# EAGLE library part FTDI (library we-board)
FTDI 6pol connector
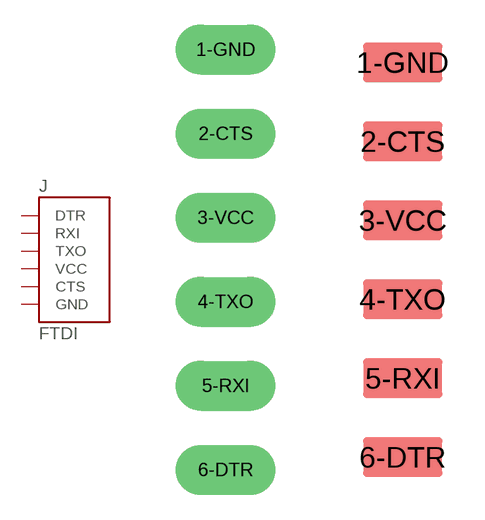
[diagram p7: symbol with the pads of FTDI; footprints FTDI, FTDI_SMD]

Designator prefix J

## FTDI  [FTDI]
1-GND  GND  pwr
2-CTS  CTS
3-VCC  VCC  pwr
4-TXO  TXO
5-RXI  RXI
6-DTR  DTR

## FTDI-SMD  [FTDI_SMD]
Pads as for FTDI

## FTDI-SMDNC  [FTDI_SMDNC]
Pads as for FTDI

## Footprint FTDI (pad centres in mm)
1x6
drill 1 long: 1-GND 0,6.35; 2-CTS 0,3.81; 3-VCC 0,1.27; 4-TXO 0,-1.27; 5-RXI 0,-3.81; 6-DTR 0,-6.35

## Footprint FTDI_SMD (pad centres in mm)
1x6 SMD with cream
smd 2.54 x 1.27: 1-GND 0,6.35; 2-CTS 0,3.81; 3-VCC 0,1.27; 4-TXO 0,-1.27; 5-RXI 0,-3.81; 6-DTR 0,-6.35

## Footprint FTDI_SMDNC (pad centres in mm)
1x6 SMD without cream
smd 2.54 x 1.27: 1-GND 0,6.35; 2-CTS 0,3.81; 3-VCC 0,1.27; 4-TXO 0,-1.27; 5-RXI 0,-3.81; 6-DTR 0,-6.35